# Altium schematic symbol library SI5340B-D-GM.SchLib: 2 symbols
Pins are listed as number, name and electrical type; pins without a type are passive.

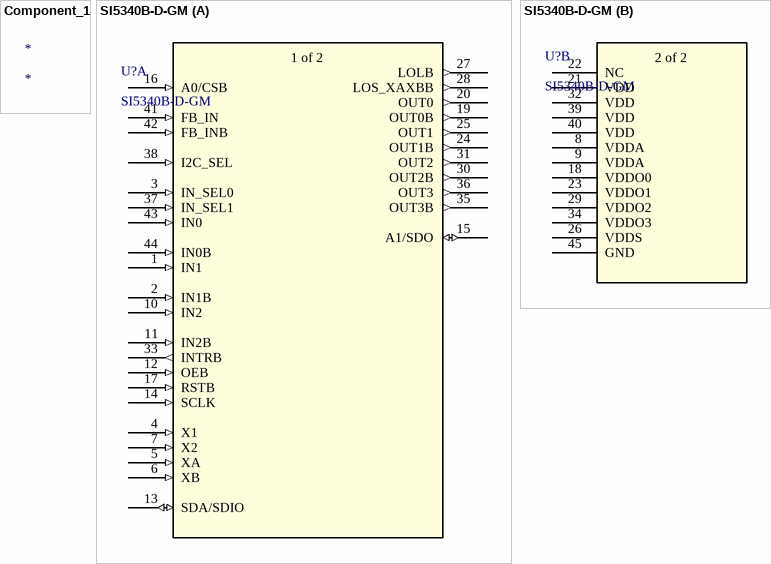
[diagram p0: symbols Component_1 to SI5340B-D-GM]

## Component_1
designator *

## SI5340B-D-GM
designator U?
No Description Available; Mfr_Name: Silicon Labs; Copyright: Copyright (C) 2023 Ultra Librarian. All rights reserved.; Manufacturer_Part_Number: SI5340B-D-GM; RefDes: RefDes; Type: DEV
footprint QFN44_7X7_SIL
part A pins: 1 IN1 (in), 2 IN1B (in), 3 IN_SEL0 (in), 4 X1 (in), 5 XA (in), 6 XB (in), 7 X2 (in), 10 IN2 (in), 11 IN2B (in), 12 OEB (in), 13 SDA/SDIO (io), 14 SCLK (in), 15 A1/SDO (io), 16 A0/CSB (in), 17 RSTB (in), 19 OUT0B (out), 20 OUT0 (out), 24 OUT1B (out), 25 OUT1 (out), 27 LOLB (out), 28 LOS_XAXBB (out), 30 OUT2B (out), 31 OUT2 (out), 33 INTRB (out), 35 OUT3B (out), 36 OUT3 (out), 37 IN_SEL1 (in), 38 I2C_SEL (in), 41 FB_IN (in), 42 FB_INB (in), 43 IN0 (in), 44 IN0B (in)
part B pins: 8 VDDA (power), 9 VDDA (power), 18 VDDO0 (power), 21 VDD (power), 22 NC, 23 VDDO1 (power), 26 VDDS (power), 29 VDDO2 (power), 32 VDD (power), 34 VDDO3 (power), 39 VDD (power), 40 VDD (power), 45 GND (power)
part A text: 1 of 2
part B text: 2 of 2